# EAGLE library part ARDUINO-PINS-QUARTER (library arno)
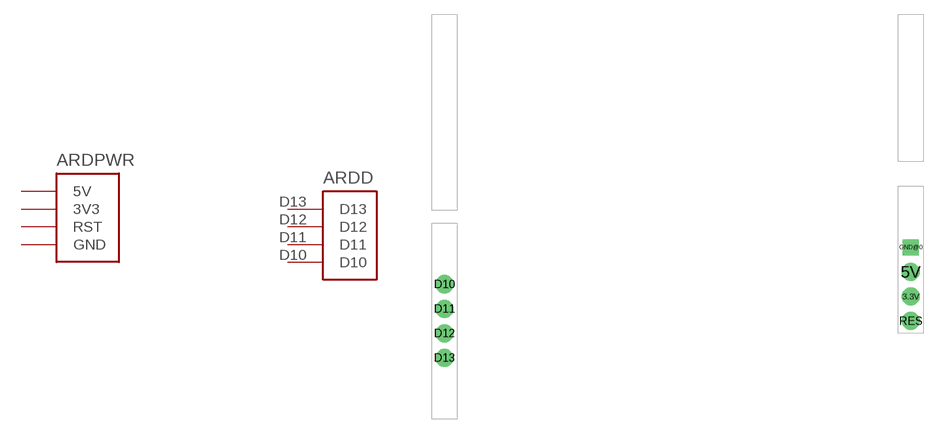
[diagram p10: symbol with the pads of DUEMILANOVE-VIAS-QUARTER; footprint DUEMILANOVE-VIAS-QUARTER]

Designator prefix ARD; gates D=PIN-ARD-DIGI1013 PWR=PIN-ARD-POWER-QUARTER

## ARDUINO-PINS-QUARTER-DUEMILANOVE  [DUEMILANOVE-VIAS-QUARTER]
3.3V  PWR:3V3
5V  PWR:5V
D10  D:D10
D11  D:D11
D12  D:D12
D13  D:D13
GND@0  PWR:GND
RES  PWR:RST

## Footprint DUEMILANOVE-VIAS-QUARTER (pad centres in mm)
drill 1.016 pad 1.88: 3.3V 24.13,-8.89; 5V 24.13,-6.35; D10 -24.13,-7.62; D11 -24.13,-10.16; D12 -24.13,-12.7; D13 -24.13,-15.24; RES 24.13,-11.43
drill 1.016 pad 1.676 square: GND@0 24.13,-3.81